# EAGLE library part SPARKFUN_ESP8266_THING (library SparkFun-Boards)
SparkFun Thing Board The SparkFun ESP8266 Thing is a breakout and development board for the ESP8266 WiFi SoC SparkFun Products: SparkFun ESP8266 Thing <https://www.sparkfun.com/products/13231>
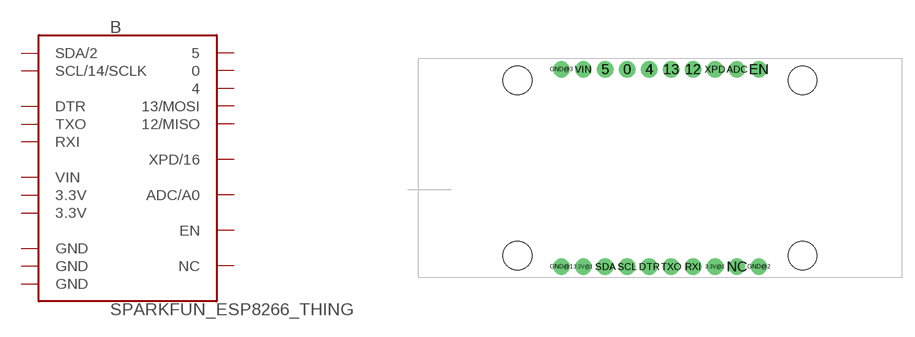
[diagram p8: symbol with the pads of SPARKFUN_ESP8266_THING; footprint SPARKFUN_ESP8266_THING]

Designator prefix B

## SPARKFUN_ESP8266_THING (SF_ID: WRL-13231)  [SPARKFUN_ESP8266_THING]
0  0
3.3V@1  3.3V  pwr
3.3V@2  3.3V  pwr
4  4
5  5
12  12/MISO
13  13/MOSI
ADC  ADC/A0
DTR  DTR
EN  EN  in
GND@1  GND  pwr
GND@2  GND  pwr
GND@3  GND  pwr
NC  NC  nc
RXI  RXI  in
SCL  SCL/14/SCLK
SDA  SDA/2
TXO  TXO  out
VIN  VIN  pwr
XPD  XPD/16

## Footprint SPARKFUN_ESP8266_THING (pad centres in mm)
SparkFun Thing Board Footprint Specifications: Pin count: 20 Pin pitch:0.1 inch Area: 2.2 x 1.0 inchees Example device(s): SparkFun Thing
drill 1.016 pad 1.88: 0 -2.54,11.43; 3.3V@1 -7.62,-11.43; 3.3V@2 7.62,-11.43; 4 0,11.43; 5 -5.08,11.43; 12 5.08,11.43; 13 2.54,11.43; ADC 10.16,11.43; DTR 0,-11.43; EN 12.7,11.43; GND@1 -10.16,-11.43; GND@2 12.7,-11.43; GND@3 -10.16,11.43; NC 10.16,-11.43; RXI 5.08,-11.43; SCL -2.54,-11.43; SDA -5.08,-11.43; TXO 2.54,-11.43; VIN -7.62,11.43; XPD 7.62,11.43
hole 3.302 at -15.24,-10.16
hole 3.302 at -15.24,10.16
hole 3.302 at 17.78,10.16
hole 3.302 at 17.78,-10.16